# Altium footprint library Chip_kz85.PcbLib: 312 footprints (part 17 of 20)
Each footprint in its own frame and in the unit in brackets; x right, y up, seen from the top. Pads: shape width x height; smd on the part's side, far side on the other; paste and mask are expansions set on the pad; w line width, h text height; cw(c..) or ccw(c..) is an arc to the next point about the centre after c.
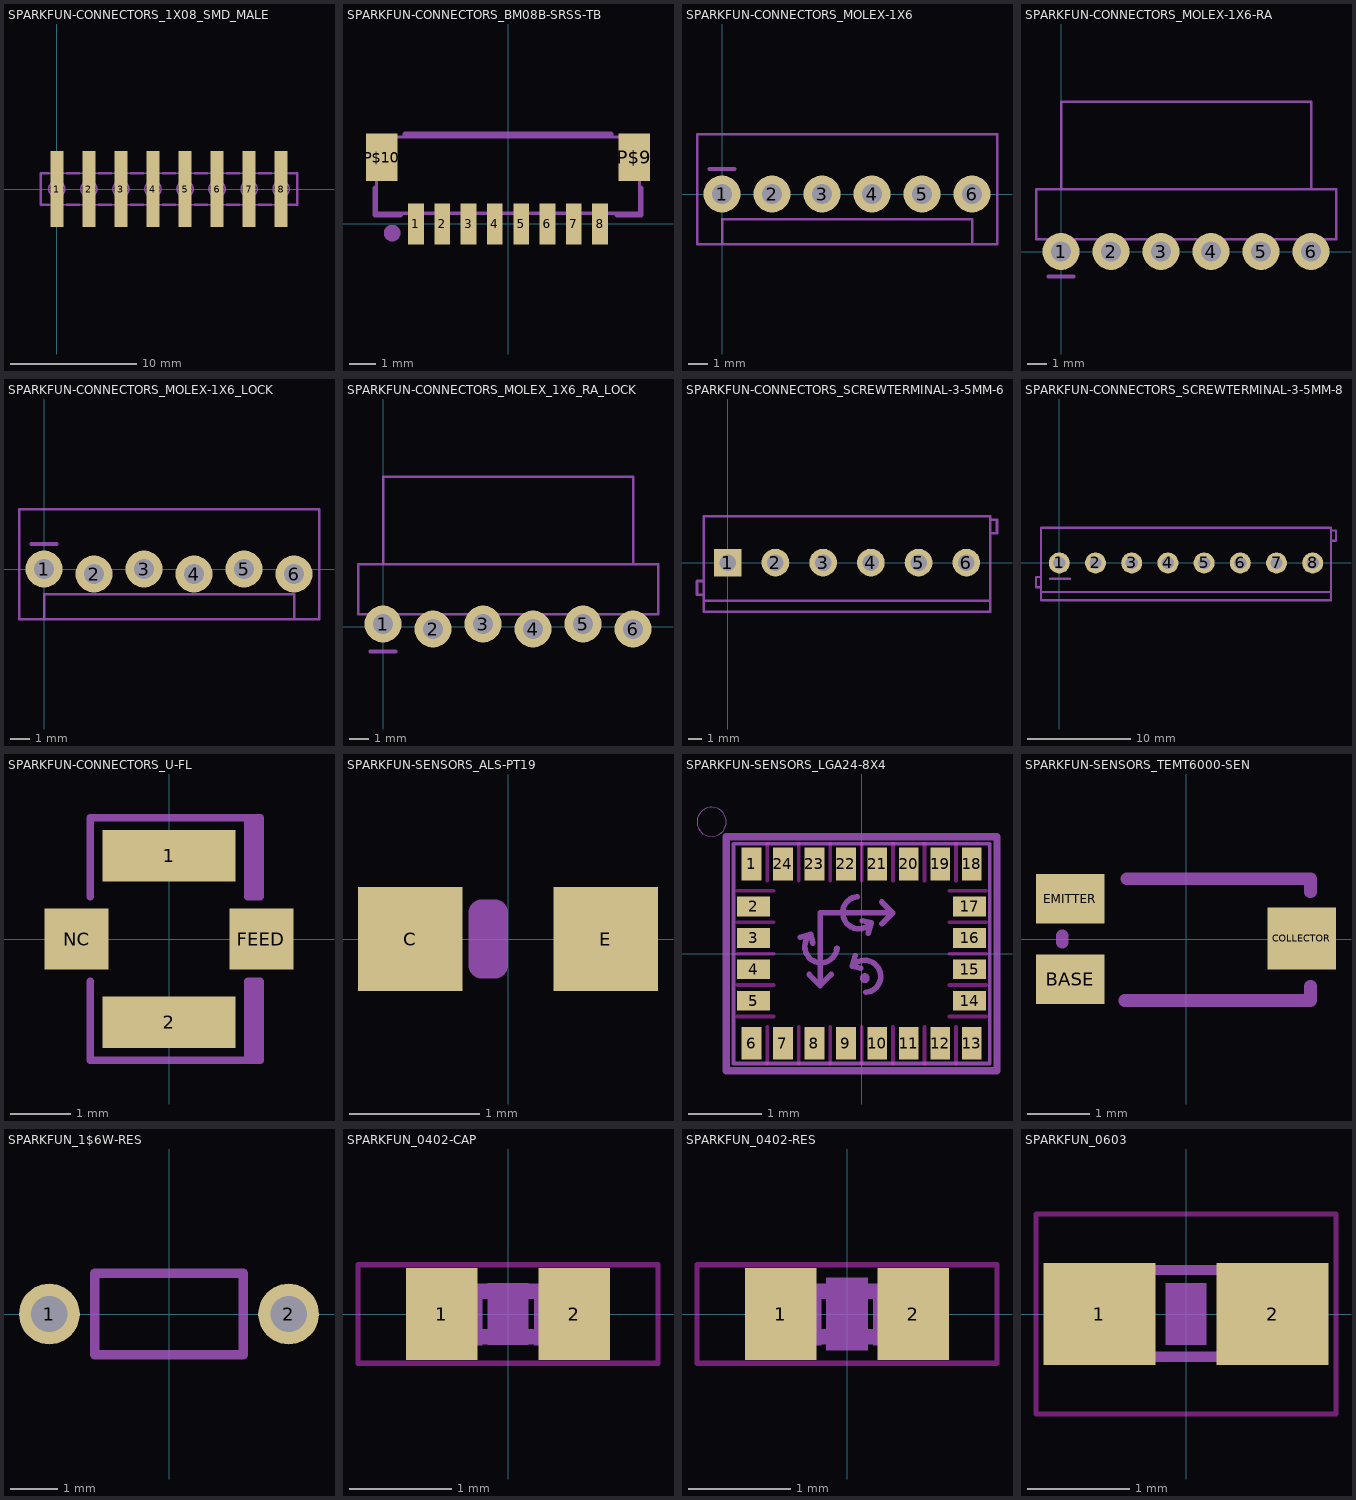
[diagram p16: the footprints below, top view; thin cyan lines are the x and y axes]

## SPARKFUN-CONNECTORS_1X08_SMD_MALE [mm]
pads (8):
  rect 1.02x6 smd: 1(0,0) 2(2.54,0) 3(5.08,0) 4(7.62,0) 5(10.16,0) 6(12.7,0) 7(15.24,0) 8(17.78,0)
Mechanical 3:
  circle w0.127: c0,0 r0.64
  circle w0.127: c2.54,0 r0.64
  circle w0.127: c5.08,0 r0.64
  circle w0.127: c7.62,0 r0.64
  circle w0.127: c10.16,0 r0.64
  circle w0.127: c12.7,0 r0.64
  circle w0.127: c15.24,0 r0.64
  circle w0.127: c17.78,0 r0.64
  region: -0.32,0 -0.32,2.75 0.32,2.75 0.32,0
  region: 4.76,0 4.76,2.75 5.4,2.75 5.4,0
  region: 9.84,0 9.84,2.75 10.48,2.75 10.48,0
  region: 2.86,0 2.86,-2.75 2.22,-2.75 2.22,0
  region: 7.94,0 7.94,-2.75 7.3,-2.75 7.3,0
  region: 13.02,0 13.02,-2.75 12.38,-2.75 12.38,0
  region: 14.92,0 14.92,2.75 15.56,2.75 15.56,0
  region: 18.1,0 18.1,-2.75 17.46,-2.75 17.46,0
  lines w0.127: -1.27,-1.25 -1.27,1.25 19.05,1.25 19.05,-1.25 -1.27,-1.25
Mechanical 7:
  lines w0.178: -0.635,-1.25 -1.27,-1.25 -1.27,1.25 -0.635,1.25 ; 0.762,-1.25 1.778,-1.25 ; 0.762,1.25 1.778,1.25 ; 3.302,-1.25 4.318,-1.25 ; 3.302,1.25 4.318,1.25 ; 5.842,-1.25 6.858,-1.25 ; 5.842,1.25 6.858,1.25 ; 8.382,-1.25 9.398,-1.25 ; 8.382,1.25 9.398,1.25 ; 10.922,-1.25 11.938,-1.25 ; 10.922,1.25 11.938,1.25 ; 13.462,-1.25 14.478,-1.25 ; 13.462,1.25 14.478,1.25 ; 16.002,-1.25 17.018,-1.25 ; 16.002,1.25 17.018,1.25 ; 18.415,-1.25 19.05,-1.25 19.05,1.25 18.415,1.25

## SPARKFUN-CONNECTORS_BM08B-SRSS-TB [mm]
pads (10):
  rect 0.6x1.55 smd: 1(-3.5,0) 2(-2.5,0) 3(-1.5,0) 4(-0.5,0) 5(0.5,0) 6(1.5,0) 7(2.5,0) 8(3.5,0)
  rect 1.2x1.8 smd: P$9(4.8,2.525) P$10(-4.8,2.525)
Mechanical 3:
  lines w0.127: -5,0.4 -5,3.3 5,3.3 5,0.4 -5,0.4
Mechanical 7:
  circle w0.406: c-4.4,-0.35 r0.112
  lines w0.203: -5.05,1.35 -5.05,0.35 -4.1,0.35 ; -3.9,3.4 3.9,3.4 ; 4.15,0.35 5.05,0.35 5.05,1.35

## SPARKFUN-CONNECTORS_MOLEX-1X6 [mil]
pads (6):
  round 74 hole 40: 1(0,0) 2(100,0) 3(200,0) 4(300,0) 5(400,0) 6(500,0)
Mechanical 7:
  lines w5: 0,-100 500,-100 ; 0,-100 -50,-100 -50,120 550,120 550,-100 500,-100 ; 0,-100 0,-50 500,-50 500,-100
  lines w8: -25,50 25,50
Mechanical 8:
  lines w8: -25,50 25,50

## SPARKFUN-CONNECTORS_MOLEX-1X6-RA [mil]
pads (6):
  round 74 hole 40: 1(0,0) 2(100,0) 3(200,0) 4(300,0) 5(400,0) 6(500,0)
Mechanical 7:
  lines w5: 0,125 500,125 ; 0,125 -50,125 -50,25 550,25 550,125 500,125 ; 0,125 0,300 500,300 500,125
  lines w8: -25,-50 25,-50
Mechanical 8:
  lines w8: -25,-50 25,-50

## SPARKFUN-CONNECTORS_MOLEX-1X6_LOCK [mil]
pads (6):
  round 74 hole 40: 1(0,0) 2(100,-10) 3(200,0) 4(300,-10) 5(400,0) 6(500,-10)
Mechanical 3:
  region: -11.5,-16.5 -11.5,6.5 11.5,6.5 11.5,-16.5
  region: 88.5,-16.5 88.5,6.5 111.5,6.5 111.5,-16.5
  region: 188.5,-16.5 188.5,6.5 211.5,6.5 211.5,-16.5
  region: 288.5,-16.5 288.5,6.5 311.5,6.5 311.5,-16.5
  region: 388.5,-16.5 388.5,6.5 411.5,6.5 411.5,-16.5
  region: 488.5,-16.5 488.5,6.5 511.5,6.5 511.5,-16.5
Mechanical 7:
  lines w5: 0,-100 500,-100 ; 0,-100 -50,-100 -50,120 550,120 550,-100 500,-100 ; 0,-100 0,-50 500,-50 500,-100
  lines w8: -25,50 25,50
Mechanical 8:
  lines w8: -25,50 25,50

## SPARKFUN-CONNECTORS_MOLEX_1X6_RA_LOCK [mil]
pads (6):
  round 74 hole 40: 1(0,5) 2(100,-5) 3(200,5) 4(300,-5) 5(400,5) 6(500,-5)
Mechanical 7:
  lines w5: 0,125 500,125 ; 0,125 -50,125 -50,25 550,25 550,125 500,125 ; 0,125 0,300 500,300 500,125
  lines w8: -25,-50 25,-50
Mechanical 8:
  lines w8: -25,-50 25,-50

## SPARKFUN-CONNECTORS_SCREWTERMINAL-3-5MM-6 [mil]
pads (6):
  rect 80x80 / inner round 73.91 / far side rect 80x80 hole 47.24: 1(0,0)
  round 80 hole 47.24: 2(137.8,0) 3(275.59,0) 4(413.39,0) 5(551.18,0) 6(688.98,0)
Mechanical 3:
  lines w8: -68.9,-92.52 -88.58,-92.52 -88.58,-53.15 -68.9,-53.15 ; 757.87,84.65 777.56,84.65 777.56,124.02 757.87,124.02
Mechanical 7:
  lines w8: -68.9,-110.24 -68.9,-141.73 757.87,-141.73 757.87,-110.24 ; -68.9,-110.24 -68.9,133.86 757.87,133.86 757.87,-110.24 ; -68.9,-110.24 757.87,-110.24

## SPARKFUN-CONNECTORS_SCREWTERMINAL-3-5MM-8 [mil]
pads (8):
  round 80 hole 47.24: 1(0,0) 2(137.8,0) 3(275.59,0) 4(413.39,0) 5(551.18,0) 6(688.98,0) 7(826.77,0) 8(964.57,0)
Mechanical 3:
  lines w8: -68.9,-92.52 -88.58,-92.52 -88.58,-53.15 -68.9,-53.15 ; 1033.46,84.65 1053.15,84.65 1053.15,124.02 1033.46,124.02
Mechanical 7:
  lines w8: -35,-60 40,-60 ; -68.9,-110.24 -68.9,-141.73 1033.46,-141.73 1033.46,-110.24 ; -68.9,-110.24 -68.9,133.86 1033.46,133.86 1033.46,-110.24 ; -68.9,-110.24 1033.46,-110.24
Mechanical 8:
  lines w8: -35,-60 40,-60

## SPARKFUN-CONNECTORS_U-FL [mm]
pads (4):
  rect 2.2x0.85 smd: 1(0,1.375) 2(0,-1.375)
  rect 1.05x1 smd: FEED(1.525,0) NC(-1.525,0)
Mechanical 7:
  lines w0.127: -1.3,-0.7 -1.3,-2 1.3,-2 ; -1.3,0.7 -1.3,2 1.3,2 ; 1.4,-2 1.4,-0.7 ; 1.4,0.7 1.4,2 ; 1.3,-2 1.5,-2 1.5,-0.7 1.3,-0.7 1.3,-2 ; 1.3,2 1.5,2 1.5,0.7 1.3,0.7 1.3,2

## SPARKFUN-SENSORS_ALS-PT19 [mil]
pads (2):
  rect 31.5x31.5 smd: C(-29.53,0) E(29.53,0)
Mechanical 7:
  lines w8: -7.87,-7.87 -7.87,7.87 -3.94,7.87 -3.94,-7.87 -7.87,-7.87

## SPARKFUN-SENSORS_LGA24-8X4 [mm]
pads (24):
  rect 0.27x0.45 smd: 1(-1.505,1.225) 6(-1.505,-1.225) 7(-1.075,-1.225) 8(-0.645,-1.225) 9(-0.215,-1.225) 10(0.215,-1.225) 11(0.645,-1.225) 12(1.075,-1.225) 13(1.505,-1.225) 18(1.505,1.225) 19(1.075,1.225) 20(0.645,1.225) 21(0.215,1.225) 22(-0.215,1.225) 23(-0.645,1.225) 24(-1.075,1.225)
  rect 0.45x0.27 smd: 2(-1.475,0.645) 3(-1.475,0.215) 4(-1.475,-0.215) 5(-1.475,-0.645) 14(1.475,-0.645) 15(1.475,-0.215) 16(1.475,0.215) 17(1.475,0.645)
Top Layer keep-out:
  lines w0.051: -1.7,-0.86 -1.2,-0.86 ; -1.7,-0.43 -1.2,-0.43 ; -1.7,0 -1.2,0 ; -1.7,0.43 -1.2,0.43 ; -1.7,0.86 -1.2,0.86 ; -1.29,-1.5 -1.29,-1 ; -1.29,1 -1.29,1.5 ; -0.86,-1.5 -0.86,-1 ; -0.86,1 -0.86,1.5 ; -0.43,-1.5 -0.43,-1 ; -0.43,1 -0.43,1.5 ; 0,-1.5 0,-1 ; 0,1 0,1.5 ; 0.43,-1.5 0.43,-1 ; 0.43,1 0.43,1.5 ; 0.86,-1.5 0.86,-1 ; 0.86,1 0.86,1.5 ; 1.2,-0.86 1.7,-0.86 ; 1.2,-0.43 1.7,-0.43 ; 1.2,0 1.7,0 ; 1.2,0.43 1.7,0.43 ; 1.2,0.86 1.7,0.86 ; 1.29,-1.5 1.29,-1 ; 1.29,1 1.29,1.5
Mechanical 3:
  circle w0.076: c0.043,-0.334 r0.028
  region: 1.39,1.05 1.39,1.4 1.62,1.4 1.62,1.05
  region: 0.96,1.05 0.96,1.4 1.19,1.4 1.19,1.05
  region: 0.53,1.05 0.53,1.4 0.76,1.4 0.76,1.05
  region: 0.1,1.05 0.1,1.4 0.33,1.4 0.33,1.05
  region: -0.33,1.05 -0.33,1.4 -0.1,1.4 -0.1,1.05
  region: -0.76,1.05 -0.76,1.4 -0.53,1.4 -0.53,1.05
  region: -1.19,1.05 -1.19,1.4 -0.96,1.4 -0.96,1.05
  region: -1.62,1.05 -1.62,1.4 -1.39,1.4 -1.39,1.05
  region: -1.39,-1.05 -1.39,-1.4 -1.62,-1.4 -1.62,-1.05
  region: -0.96,-1.05 -0.96,-1.4 -1.19,-1.4 -1.19,-1.05
  region: -0.53,-1.05 -0.53,-1.4 -0.76,-1.4 -0.76,-1.05
  region: -0.1,-1.05 -0.1,-1.4 -0.33,-1.4 -0.33,-1.05
  region: 0.33,-1.05 0.33,-1.4 0.1,-1.4 0.1,-1.05
  region: 0.76,-1.05 0.76,-1.4 0.53,-1.4 0.53,-1.05
  region: 1.19,-1.05 1.19,-1.4 0.96,-1.4 0.96,-1.05
  region: 1.62,-1.05 1.62,-1.4 1.39,-1.4 1.39,-1.05
  region: -1.65,0.53 -1.65,0.76 -1.3,0.76 -1.3,0.53
  region: -1.65,0.1 -1.65,0.33 -1.3,0.33 -1.3,0.1
  region: -1.65,-0.33 -1.65,-0.1 -1.3,-0.1 -1.3,-0.33
  region: -1.65,-0.76 -1.65,-0.53 -1.3,-0.53 -1.3,-0.76
  region: 1.65,-0.53 1.65,-0.76 1.3,-0.76 1.3,-0.53
  region: 1.65,-0.1 1.65,-0.33 1.3,-0.33 1.3,-0.1
  region: 1.65,0.33 1.65,0.1 1.3,0.1 1.3,0.33
  region: 1.65,0.76 1.65,0.53 1.3,0.53 1.3,0.76
  lines w0.051: -1.75,-1.5 -1.75,1.5 1.75,1.5 1.75,-1.5 -1.75,-1.5
  lines w0.076: -0.837,0.225 -0.697,0.265 ; -0.717,-0.285 -0.567,-0.435 -0.417,-0.285 ; -0.667,0.145 -0.697,0.265 ; -0.567,-0.432 -0.567,0.556 0.425,0.556 ; -0.337,0.075 cw(c-0.556,0.095) -0.697,0.265 ; -0.09,-0.03 -0.13,-0.17 ; -0.059,0.78 ccw(c-0.038,0.56) 0.131,0.419 ; -0.01,-0.2 -0.13,-0.17 ; 0.011,0.449 0.131,0.419 ; 0.06,-0.53 ccw(c0.04,-0.311) -0.13,-0.17 ; 0.091,0.279 0.131,0.419 ; 0.275,0.406 0.425,0.556 ; 0.275,0.706 0.425,0.556
  text "X" at 0.603,0.557 h0.46
  text "Y" at -0.571,-0.647 h0.46
  text "Z" at 0.354,0.063 h0.46
Mechanical 7:
  circle w0: c-2.05,1.8 r0.2
  lines w0.102: -1.85,-1.6 1.85,-1.6 1.85,1.6 -1.85,1.6 -1.85,-1.6

## SPARKFUN-SENSORS_TEMT6000-SEN [mm]
pads (3):
  rect 1.1x0.8 smd: BASE(-1.87,-0.65) EMITTER(-1.87,0.65)
  rect 1.1x1 smd: COLLECTOR(1.86,0.01)
Mechanical 7:
  lines w0.203: -2,-0.05 -2,0.05 ; -0.99,-0.99 2,-0.99 2,-0.76 ; -0.96,0.97 2,0.97 2,0.76

## SPARKFUN_1$6W-RES [mil]
pads (2):
  round 50 hole 30: 1(-98.43,0) 2(98.43,0)
Mechanical 7:
  lines w8: -61.02,-33.46 61.02,-33.46 61.02,33.46 -61.02,33.46 -61.02,-33.46

## SPARKFUN_0402-CAP [mm]
pads (2):
  rect 0.7x0.9 smd: 1(-0.65,0) 2(0.65,0)
Top Layer keep-out:
  lines w0.051: -1.473,-0.483 -1.473,0.483 1.473,0.483 1.473,-0.483 -1.473,-0.483
Mechanical 3:
  region: 0.259,-0.305 0.259,0.295 0.559,0.295 0.559,-0.305
  region: -0.554,-0.305 -0.554,0.295 -0.254,0.295 -0.254,-0.305
  lines w0.152: -0.245,-0.224 0.245,-0.224 ; -0.245,0.224 0.245,0.224
Mechanical 7:
  lines w0.406: 0,-0.03 0,0.03
Mechanical 11:
  region: -0.2,-0.3 -0.2,0.3 0.2,0.3 0.2,-0.3

## SPARKFUN_0402-RES [mm]
pads (2):
  rect 0.7x0.9 smd: 1(-0.65,0) 2(0.65,0)
Top Layer keep-out:
  lines w0.051: -1.473,-0.483 1.473,-0.483 1.473,0.483 -1.473,0.483 -1.473,-0.483
Mechanical 3:
  region: -0.554,-0.305 -0.554,0.295 -0.254,0.295 -0.254,-0.305
  region: 0.259,-0.305 0.259,0.295 0.559,0.295 0.559,-0.305
  lines w0.152: -0.245,-0.224 0.245,-0.224 ; -0.245,0.224 0.245,0.224
Mechanical 7:
  region: -0.203,-0.356 -0.203,0.356 0.203,0.356 0.203,-0.356
Mechanical 11:
  region: -0.2,-0.3 -0.2,0.3 0.2,0.3 0.2,-0.3

## SPARKFUN_0603 [mm]
pads (2):
  rect 1.1x1 smd: 1(-0.85,0) 2(0.85,0)
Top Layer keep-out:
  lines w0.051: -1.473,-0.983 -1.473,0.983 1.473,0.983 1.473,-0.983 -1.473,-0.983
Mechanical 3:
  region: 0.33,-0.47 0.33,0.48 0.83,0.48 0.83,-0.47
  region: -0.838,-0.47 -0.838,0.48 -0.338,0.48 -0.338,-0.47
  lines w0.102: -0.356,-0.419 0.356,-0.419 ; -0.356,0.432 0.356,0.432
Mechanical 11:
  region: -0.2,-0.3 -0.2,0.3 0.2,0.3 0.2,-0.3